# Altium integrated library Analog Devices Data Converters Digital-to-Analog Converters.IntLib: 2231 symbols (part 117 of 181)
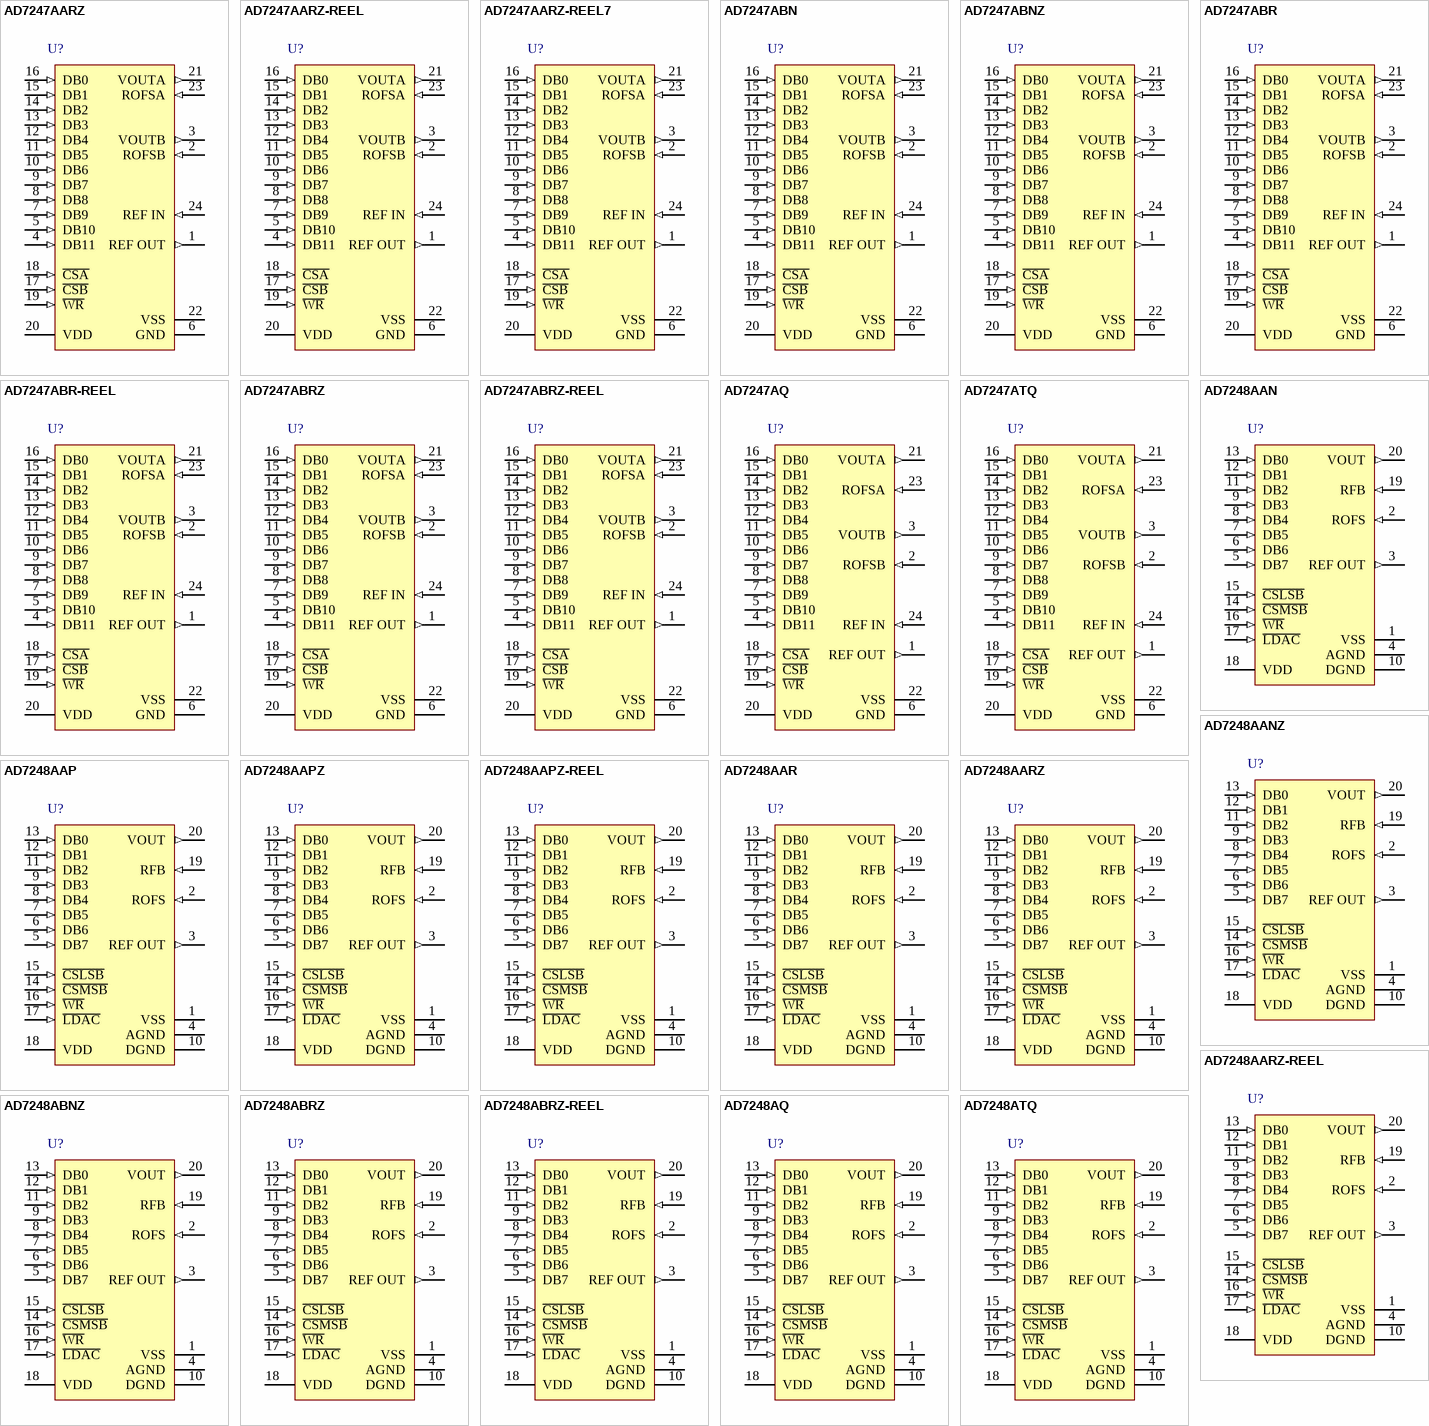
[diagram p230: symbols AD7247AARZ to AD7248ATQ]

## AD7247ABRZ
designator U?
Dual 12-Bit LC2MOS DACPORT, -40 to +85 degC, RW-24, Pb-Free, Tube; Generic Part Number: AD7247A; Manufacturer: Analog Devices; PartNumber: AD7247ABRZ; # DAC Outputs: 2; Max V+: 15V; Resolution (Bits): 12; Settling Time: 30 ns; Single Supply: YES; DatasheetVersion: Rev.A; PackageVersion: 060706-A; PackageReference: RW-24; PackageDescription: 24-Lead Standard Small Outline Package [SOIC_W]; Supplier 1: Digi-Key; Supplier Part Number 1: AD7247ABRZ-ND; Supplier 2: Farnell; Supplier Part Number 2: 1315847; Supplier 3: Newark; Supplier Part Number 3: 59K4626; Supplier 4: Mouser; Supplier Part Number 4: 584-AD7247ABRZ; Packing: Tube; RoHS: Y; Mounting Technology: Surface Mount; Code_JEDEC: MS-013-AD; ComponentLink1Description: Manufacturer URL; ComponentLink1URL: http://www.analog.com/en/index.html; ComponentLink2Description: Datasheet; ComponentLink2URL: http://www.analog.com/static/imported-files/data_sheets/AD7237_7247.pdf; ComponentLink3Description: Package Specification; ComponentLink3URL: http://www.analog.com/static/imported-files/packages/33665150946139RW_24.pdf; ComponentLink4Description: Product URL; ComponentLink4URL: http://www.analog.com/en/digital-to-analog-converters/da-converters/ad7247/products/product.html
footprint RW-24_N (SOIC, 24-Leads, Body 15.4x7.5mm, Pitch 1.27mm, IPC Medium Density)
footprint RW-24_L (SOIC, 24-Leads, Body 15.4x7.5mm, Pitch 1.27mm, IPC High Density)
footprint RW-24_M (SOIC, 24-Leads, Body 15.4x7.5mm, Pitch 1.27mm, IPC Low Density)
pins: 1 REF OUT (out) "Voltage Reference Output. The internal 5 V analog reference is provided at this pin. To operate the part with internal reference, REF OUT should be connected to REF IN.", 2 ROFSB (in) "Output Offset Resistor for DAC B. This input configures the output ranges for DAC B. It is connected to VOUTB for the +5 V range, to GND for the +10 V range and to REF IN for the +/-5 V range.", 3 VOUTB (out) "Analog Output Voltage from DAC B. This is the buffer amplifier output voltage. Three different Output voltage ranges can be chosen: 0 to +5 V, 0 to +10 V and +/-5 V. The amplifier is capable of developing +10 V across a 2 (See Datasheet)", 4 DB11 (in) "Data Bit 11 (MSB).", 5 DB10 (in) "Data Bit 10.", 6 GND (power) "Ground. Ground reference for all on-chip circuitry.", 7 DB9 (in) "Data Bit 9.", 8 DB8 (in) "Data Bit 8.", 9 DB7 (in) "Data Bit 7.", 10 DB6 (in) "Data Bit 6.", 11 DB5 (in) "Data Bit 5.", 12 DB4 (in) "Data Bit 4.", 13 DB3 (in) "Data Bit 3.", 14 DB2 (in) "Data Bit 2.", 15 DB1 (in) "Data Bit 1.", 16 DB0 (in) "Data Bit 0 (LSB).", 17 ~{CSB} (in) "Chip Select Input for DAC B. Active low logic input. DAC B is selected when this input is active.", 18 ~{CSA} (in) "Chip Select Input for DAC A. Active low logic input. DAC A is selected when this input is active.", 19 ~{WR} (in) "Write Input. W\R\ is an active low logic input which is used in conjunction with C\S\A\ and C\S\B\ to write data to the DAC latches.", 20 VDD (power) "Positive Suppiy, +15V.", 21 VOUTA (out) "Analog Output Voltage from DAC A. This is the buffer amplifier output voltage. Three different Output voltage ranges can be chosen: 0 to +5 V , 0 to +10 V and +/-5 V. The amplifier is capable of developing +10 V across a 2 (See Datasheet)", 22 VSS (power) "Negative Supply,-15V.", 23 ROFSA (in) "Output Offset Resistor for DAC A. This input configures the output ranges for DAC A. It is connected to VOUTB for the +5 V range, to GND for the +10 V range and to REF IN for the +/-5 V range.", 24 REF IN (in) "Voltage Reference Input. The common reference voltage for both DACs is applied to this pin. It is internally buffered before being appiled to both DACs. The nominal reference voltage for correct operation of the AD7247 is 5 (See Datasheet)"

## AD7247ABRZ-REEL
designator U?
Dual 12-Bit LC2MOS DACPORT, -40 to +85 degC, RW-24, Pb-Free, Reel; Generic Part Number: AD7247A; Manufacturer: Analog Devices; PartNumber: AD7247ABRZ-REEL; # DAC Outputs: 2; Max V+: 15V; Resolution (Bits): 12; Settling Time: 30 ns; Single Supply: YES; DatasheetVersion: Rev.A; PackageVersion: 060706-A; PackageReference: RW-24; PackageDescription: 24-Lead Standard Small Outline Package [SOIC_W]; Supplier 1: Digi-Key; Supplier Part Number 1: AD7247ABRZ-REEL-ND; Supplier 2: Mouser; Supplier Part Number 2: 584-AD7247ABRZ-R; Packing: Reel; RoHS: Y; Mounting Technology: Surface Mount; Code_JEDEC: MS-013-AD; ComponentLink1Description: Manufacturer URL; ComponentLink1URL: http://www.analog.com/en/index.html; ComponentLink2Description: Datasheet; ComponentLink2URL: http://www.analog.com/static/imported-files/data_sheets/AD7237_7247.pdf; ComponentLink3Description: Package Specification; ComponentLink3URL: http://www.analog.com/static/imported-files/packages/33665150946139RW_24.pdf; ComponentLink4Description: Product URL; ComponentLink4URL: http://www.analog.com/en/digital-to-analog-converters/da-converters/ad7247/products/product.html
footprint RW-24_N (SOIC, 24-Leads, Body 15.4x7.5mm, Pitch 1.27mm, IPC Medium Density)
footprint RW-24_L (SOIC, 24-Leads, Body 15.4x7.5mm, Pitch 1.27mm, IPC High Density)
footprint RW-24_M (SOIC, 24-Leads, Body 15.4x7.5mm, Pitch 1.27mm, IPC Low Density)
pins: 1 REF OUT (out) "Voltage Reference Output. The internal 5 V analog reference is provided at this pin. To operate the part with internal reference, REF OUT should be connected to REF IN.", 2 ROFSB (in) "Output Offset Resistor for DAC B. This input configures the output ranges for DAC B. It is connected to VOUTB for the +5 V range, to GND for the +10 V range and to REF IN for the +/-5 V range.", 3 VOUTB (out) "Analog Output Voltage from DAC B. This is the buffer amplifier output voltage. Three different Output voltage ranges can be chosen: 0 to +5 V, 0 to +10 V and +/-5 V. The amplifier is capable of developing +10 V across a 2 (See Datasheet)", 4 DB11 (in) "Data Bit 11 (MSB).", 5 DB10 (in) "Data Bit 10.", 6 GND (power) "Ground. Ground reference for all on-chip circuitry.", 7 DB9 (in) "Data Bit 9.", 8 DB8 (in) "Data Bit 8.", 9 DB7 (in) "Data Bit 7.", 10 DB6 (in) "Data Bit 6.", 11 DB5 (in) "Data Bit 5.", 12 DB4 (in) "Data Bit 4.", 13 DB3 (in) "Data Bit 3.", 14 DB2 (in) "Data Bit 2.", 15 DB1 (in) "Data Bit 1.", 16 DB0 (in) "Data Bit 0 (LSB).", 17 ~{CSB} (in) "Chip Select Input for DAC B. Active low logic input. DAC B is selected when this input is active.", 18 ~{CSA} (in) "Chip Select Input for DAC A. Active low logic input. DAC A is selected when this input is active.", 19 ~{WR} (in) "Write Input. W\R\ is an active low logic input which is used in conjunction with C\S\A\ and C\S\B\ to write data to the DAC latches.", 20 VDD (power) "Positive Suppiy, +15V.", 21 VOUTA (out) "Analog Output Voltage from DAC A. This is the buffer amplifier output voltage. Three different Output voltage ranges can be chosen: 0 to +5 V , 0 to +10 V and +/-5 V. The amplifier is capable of developing +10 V across a 2 (See Datasheet)", 22 VSS (power) "Negative Supply,-15V.", 23 ROFSA (in) "Output Offset Resistor for DAC A. This input configures the output ranges for DAC A. It is connected to VOUTB for the +5 V range, to GND for the +10 V range and to REF IN for the +/-5 V range.", 24 REF IN (in) "Voltage Reference Input. The common reference voltage for both DACs is applied to this pin. It is internally buffered before being appiled to both DACs. The nominal reference voltage for correct operation of the AD7247 is 5 (See Datasheet)"

## AD7247AQ
designator U?
Dual 12-Bit LC2MOS DACPORT, -40 to +85 degC, Q-24-1, Tube; Generic Part Number: AD7247A; Manufacturer: Analog Devices; PartNumber: AD7247AQ; # DAC Outputs: 2; Max V+: 15V; Resolution (Bits): 12; Settling Time: 30 ns; Single Supply: YES; DatasheetVersion: Rev.A; PackageVersion: 100808-A; PackageReference: Q-24-1; PackageDescription: 24-Lead Ceramic Dual In-Line Package [CERDIP]; Supplier 1: Digi-Key; Supplier Part Number 1: AD7247AQ-ND; Supplier 2: Mouser; Supplier Part Number 2: 584-AD7247AQ; Packing: Tube; RoHS: N; Mounting Technology: Through Hole; ComponentLink1Description: Manufacturer URL; ComponentLink1URL: http://www.analog.com/en/index.html; ComponentLink2Description: Datasheet; ComponentLink2URL: http://www.analog.com/static/imported-files/data_sheets/AD7237_7247.pdf; ComponentLink3Description: Package Specification; ComponentLink3URL: http://www.analog.com/static/imported-files/packages/PKG_PDF/CERDIP(Q)/Q_24_1.pdf; ComponentLink4Description: Product URL; ComponentLink4URL: http://www.analog.com/en/digital-to-analog-converters/da-converters/ad7247/products/product.html
footprint Q-24-1 (DIP, 24-Leads, Row Spacing 7.62mm, Pitch 2.54mm, Body 31.9x6.7mm)
pins: 1 REF OUT (out) "Voltage Reference Output. The internal 5 V analog reference is provided at this pin. To operate the part with internal reference, REF OUT should be connected to REF IN.", 2 ROFSB (in) "Output Offset Resistor for DAC B. This input configures the output ranges for DAC B. It is connected to VOUTB for the +5 V range, to GND for the +10 V range and to REF IN for the +/-5 V range.", 3 VOUTB (out) "Analog Output Voltage from DAC B. This is the buffer amplifier output voltage. Three different Output voltage ranges can be chosen: 0 to +5 V r, 0 to +10 V and +/-5 V. The amplifier is capable of developing +10 V across a 2 (See Datasheet)", 4 DB11 (in) "Data Bit 11 (MSB).", 5 DB10 (in) "Data Bit 10.", 6 GND (power) "Ground. Ground reference for all on-chip circuitry.", 7 DB9 (in) "Data Bit 9.", 8 DB8 (in) "Data Bit 8.", 9 DB7 (in) "Data Bit 7.", 10 DB6 (in) "Data Bit 6.", 11 DB5 (in) "Data Bit 5.", 12 DB4 (in) "Data Bit 4.", 13 DB3 (in) "Data Bit 3.", 14 DB2 (in) "Data Bit 2.", 15 DB1 (in) "Data Bit 1.", 16 DB0 (in) "Data Bit 0 (LSB).", 17 ~{CSB} (in) "Chip Select Input for DAC B. Active low logic input. DAC B is selected when this input is active.", 18 ~{CSA} (in) "Chip Select Input for DAC A. Active low logic input. DAC A is selected when this input is active.", 19 ~{WR} (in) "Write Input. W\R\ is an active low logic input which is used in conjunction with C\S\A\ and C\S\B\ to write data to the DAC latches.", 20 VDD (power) "Positive Supply, +15V.", 21 VOUTA (out) "Analog Output Voltage from DAC A. This is the buffer amplifier output voltage. Three different Output voltage ranges can be chosen: 0 to +5 V , 0 to +10 V and +/-5 V. The amplifier is capable of developing +10 V across a 2 (See Datasheet)", 22 VSS (power) "Negative Supply,-15V.", 23 ROFSA (in) "Output Offset Resistor for DAC A. This input configures the output ranges for DAC A. It is connected to VOUTB for the +5 V range, to GND for the +10 V range and to REF IN for the +/-5 V range.", 24 REF IN (in) "Voltage Reference Input. The common reference voltage for both DACs is applied to this pin. It is internally buffered before being appiled to both DACs. The nominal reference voltage for correct operation of the AD7247 is 5 (See Datasheet)"

## AD7247ATQ
designator U?
Dual 12-Bit LC2MOS DACPORT, -55 to+125 degC, Q-24-1, Tube; Generic Part Number: AD7247A; Manufacturer: Analog Devices; PartNumber: AD7247ATQ; # DAC Outputs: 2; Max V+: 15V; Op Pwr Diss: 165mW; Resolution (Bits): 12; Single Supply: Yes; DatasheetVersion: Rev.A; PackageVersion: 100808-A; PackageReference: Q-24-1; PackageDescription: 24-Lead Ceramic Dual In-Line Package [CERDIP]; Supplier 1: Digi-Key; Supplier Part Number 1: AD7247ATQ-ND; Supplier 2: Mouser; Supplier Part Number 2: 584-AD7247ATQ; Packing: Tube; RoHS: N; Mounting Technology: Through Hole; ComponentLink1Description: Manufacturer URL; ComponentLink1URL: http://www.analog.com/en/index.html; ComponentLink2Description: Datasheet; ComponentLink2URL: http://www.analog.com/static/imported-files/data_sheets/AD7237_7247.pdf; ComponentLink3Description: Package Specification; ComponentLink3URL: http://www.analog.com/static/imported-files/packages/PKG_PDF/CERDIP(Q)/Q_24_1.pdf; ComponentLink4Description: Product URL; ComponentLink4URL: http://www.analog.com/en/digital-to-analog-converters/da-converters/ad7247/products/product.html
footprint Q-24-1 (DIP, 24-Leads, Row Spacing 7.62mm, Pitch 2.54mm, Body 31.9x6.7mm)
pins: 1 REF OUT (out) "Voltage Reference Output. The internal 5 V analog reference is provided at this pin. To operate the part with internal reference, REF OUT should be connected to REF IN.", 2 ROFSB (in) "Output Offset Resistor for DAC B. This input configures the output ranges for DAC B. It is connected to VOUTB for the +5 V range, to GND for the +10 V range and to REF IN for the +/-5 V range.", 3 VOUTB (out) "Analog Output Voltage from DAC B. This is the buffer amplifier output voltage. Three different Output voltage ranges can be chosen: 0 to +5 V r, 0 to +10 V and +/-5 V. The amplifier is capable of developing +10 V across a 2 (See Datasheet)", 4 DB11 (in) "Data Bit 11 (MSB).", 5 DB10 (in) "Data Bit 10.", 6 GND (power) "Ground. Ground reference for all on-chip circuitry.", 7 DB9 (in) "Data Bit 9.", 8 DB8 (in) "Data Bit 8.", 9 DB7 (in) "Data Bit 7.", 10 DB6 (in) "Data Bit 6.", 11 DB5 (in) "Data Bit 5.", 12 DB4 (in) "Data Bit 4.", 13 DB3 (in) "Data Bit 3.", 14 DB2 (in) "Data Bit 2.", 15 DB1 (in) "Data Bit 1.", 16 DB0 (in) "Data Bit 0 (LSB).", 17 ~{CSB} (in) "Chip Select Input for DAC B. Active low logic input. DAC B is selected when this input is active.", 18 ~{CSA} (in) "Chip Select Input for DAC A. Active low logic input. DAC A is selected when this input is active.", 19 ~{WR} (in) "Write Input. W\R\ is an active low logic input which is used in conjunction with C\S\A\ and C\S\B\ to write data to the DAC latches.", 20 VDD (power) "Positive Supply, +15V.", 21 VOUTA (out) "Analog Output Voltage from DAC A. This is the buffer amplifier output voltage. Three different Output voltage ranges can be chosen: 0 to +5 V , 0 to +10 V and +/-5 V. The amplifier is capable of developing +10 V across a 2 (See Datasheet)", 22 VSS (power) "Negative Supply,-15V.", 23 ROFSA (in) "Output Offset Resistor for DAC A. This input configures the output ranges for DAC A. It is connected to VOUTB for the +5 V range, to GND for the +10 V range and to REF IN for the +/-5 V range.", 24 REF IN (in) "Voltage Reference Input. The common reference voltage for both DACs is applied to this pin. It is internally buffered before being appiled to both DACs. The nominal reference voltage for correct operation of the AD7247 is 5 (See Datasheet)"

## AD7248AAN
designator U?
Single 12-Bit LC2MOS DACPORT, -40 to +85 degC, N-20, Tube; Generic Part Number: AD7248A; Manufacturer: Analog Devices; PartNumber: AD7248AAN; # DAC Outputs: 1; Max V+: +16.5V; Resolution (Bits): 12; Settling Time: 7µs; Single Supply: Yes; DatasheetVersion: Rev.B; PackageVersion: 070706-A; PackageReference: N-20; PackageDescription: 20-Lead Plastic Dual In-Line Package [PDIP] Narrow Body; Supplier 1: Digi-Key; Supplier Part Number 1: AD7248AAN-ND; Supplier 2: Mouser; Supplier Part Number 2: 584-AD7248AAN; Packing: Tube; RoHS: N; Mounting Technology: Through Hole; Code_JEDEC: MS-001; ComponentLink1Description: Manufacturer URL; ComponentLink1URL: http://www.analog.com/en/index.html; ComponentLink2Description: Datasheet; ComponentLink2URL: http://www.analog.com/static/imported-files/data_sheets/AD7245A_7248A.pdf; ComponentLink3Description: Package Specification; ComponentLink3URL: http://www.analog.com/static/imported-files/packages/50601349676519N_20.pdf; ComponentLink4Description: Product URL; ComponentLink4URL: http://www.analog.com/en/digital-to-analog-converters/da-converters/ad7248a/products/product.html
footprint N-20 (DIP, 20-Leads, Row Spacing 7.62mm, Pitch 2.54mm, Body 25.9x6.6mm)
pins: 1 VSS (power) "Negative Supply Voltage (0 V for single supply operation).", 2 ROFS (in) "Bipolar Offset Resistor. This provides access to the on-chip application resistors and allows different output voltage ranges.", 3 REF OUT (out) "Reference Output. The on-chip reference is provided at this pin and is used when configuring the part for bipolar outputs.", 4 AGND (power) "Analog Ground.", 5 DB7 (in) "Data Bit 7.", 6 DB6 (in) "Data Bit 6.", 7 DB5 (in) "Data Bit 5.", 8 DB4 (in) "Data Bit 4.", 9 DB3 (in) "Data Bit 3.", 10 DGND (power) "Digital Ground.", 11 DB2 (in) "Data Bit 2/Data Bit 10.", 12 DB1 (in) "Data Bit 1/Data Bit 9.", 13 DB0 (in) "Data Bit 0 (LSB)/Data Bit 8.", 14 ~{CSMSB} (in) "Chip Select Input for MS Nibble. (Active LOW). This selects the upper 4 bits of the input latch. Input data is right justified.", 15 ~{CSLSB} (in) "Chip Select Input for LS byte. (Active LOW). This selects the lower 8 bits of the input latch.", 16 ~{WR} (in) "Write Input. This is used in conjunction with C\S\M\S\B\ and C\S\L\S\B\ to load data into the input latch of the AD7248A.", 17 ~{LDAC} (in) "Load DAC Input (Active LOW). This is an asynchronous input which when active transfers data from the input latch to the DAC latch.", 18 VDD (power) "Positive Supply Voltage.", 19 RFB (in) "Feedback Resistor. This allows access to the amplifier’s feedback loop.", 20 VOUT (out) "Output Voltage. Three different output voltage ranges can be chosen: 0 V to 5 V, 0 V to 10 V or -5 V to +5 V."

## AD7248AANZ
designator U?
Single 12-Bit LC2MOS DACPORT, -40 to +85 degC, N-20, Pb-Free, Tube; Generic Part Number: AD7248A; Manufacturer: Analog Devices; PartNumber: AD7248AANZ; # DAC Outputs: 1; Max V+: +16.5V; Resolution (Bits): 12; Settling Time: 7µs; Single Supply: Yes; DatasheetVersion: Rev.B; PackageVersion: 070706-A; PackageReference: N-20; PackageDescription: 20-Lead Plastic Dual In-Line Package [PDIP] Narrow Body; Supplier 1: Digi-Key; Supplier Part Number 1: AD7248AANZ-ND; Supplier 2: Newark; Supplier Part Number 2: 59K4632; Supplier 3: Mouser; Supplier Part Number 3: 584-AD7248AANZ; Packing: Tube; RoHS: Y; Mounting Technology: Through Hole; Code_JEDEC: MS-001; ComponentLink1Description: Manufacturer URL; ComponentLink1URL: http://www.analog.com/en/index.html; ComponentLink2Description: Datasheet; ComponentLink2URL: http://www.analog.com/static/imported-files/data_sheets/AD7245A_7248A.pdf; ComponentLink3Description: Package Specification; ComponentLink3URL: http://www.analog.com/static/imported-files/packages/50601349676519N_20.pdf; ComponentLink4Description: Product URL; ComponentLink4URL: http://www.analog.com/en/digital-to-analog-converters/da-converters/ad7248a/products/product.html
footprint N-20 (DIP, 20-Leads, Row Spacing 7.62mm, Pitch 2.54mm, Body 25.9x6.6mm)
pins: 1 VSS (power) "Negative Supply Voltage (0 V for single supply operation).", 2 ROFS (in) "Bipolar Offset Resistor. This provides access to the on-chip application resistors and allows different output voltage ranges.", 3 REF OUT (out) "Reference Output. The on-chip reference is provided at this pin and is used when configuring the part for bipolar outputs.", 4 AGND (power) "Analog Ground.", 5 DB7 (in) "Data Bit 7.", 6 DB6 (in) "Data Bit 6.", 7 DB5 (in) "Data Bit 5.", 8 DB4 (in) "Data Bit 4.", 9 DB3 (in) "Data Bit 3.", 10 DGND (power) "Digital Ground.", 11 DB2 (in) "Data Bit 2/Data Bit 10.", 12 DB1 (in) "Data Bit 1/Data Bit 9.", 13 DB0 (in) "Data Bit 0 (LSB)/Data Bit 8.", 14 ~{CSMSB} (in) "Chip Select Input for MS Nibble. (Active LOW). This selects the upper 4 bits of the input latch. Input data is right justified.", 15 ~{CSLSB} (in) "Chip Select Input for LS byte. (Active LOW). This selects the lower 8 bits of the input latch.", 16 ~{WR} (in) "Write Input. This is used in conjunction with C\S\M\S\B\ and C\S\L\S\B\ to load data into the input latch of the AD7248A.", 17 ~{LDAC} (in) "Load DAC Input (Active LOW). This is an asynchronous input which when active transfers data from the input latch to the DAC latch.", 18 VDD (power) "Positive Supply Voltage.", 19 RFB (in) "Feedback Resistor. This allows access to the amplifier’s feedback loop.", 20 VOUT (out) "Output Voltage. Three different output voltage ranges can be chosen: 0 V to 5 V, 0 V to 10 V or -5 V to +5 V."

## AD7248AAP
designator U?
Single 12-Bit LC2MOS DACPORT, -40 to +85 degC, P-20A, Tube; Generic Part Number: AD7248A; Manufacturer: Analog Devices; PartNumber: AD7248AAP; # DAC Outputs: 1; Max V+: +16.5V; Resolution (Bits): 12; Settling Time: 7µs; Single Supply: Yes; DatasheetVersion: Rev.B; PackageVersion: Nov-2002; PackageReference: P-20A; PackageDescription: 20-Lead Plastic Leaded Chip Carrier [PLCC]; Supplier 1: Digi-Key; Supplier Part Number 1: AD7248AAP-ND; Supplier 2: Mouser; Supplier Part Number 2: 584-AD7248AAP; Packing: Tube; RoHS: N; Mounting Technology: Surface Mount; Code_JEDEC: MO-047-AA; ComponentLink1Description: Manufacturer URL; ComponentLink1URL: http://www.analog.com/en/index.html; ComponentLink2Description: Datasheet; ComponentLink2URL: http://www.analog.com/static/imported-files/data_sheets/AD7245A_7248A.pdf; ComponentLink3Description: Package Specification; ComponentLink3URL: http://www.analog.com/static/imported-files/packages/3121431516544404277643669223804694P20A.pdf; ComponentLink4Description: Product URL; ComponentLink4URL: http://www.analog.com/en/digital-to-analog-converters/da-converters/ad7248a/products/product.html
footprint P-20A_N (Leaded Chip Carrier, 20-Leads, Body 9x9mm, Pitch 1.27mm, IPC Medium Density)
footprint P-20A_L (Leaded Chip Carrier, 20-Leads, Body 9x9mm, Pitch 1.27mm, IPC High Density)
footprint P-20A_M (Leaded Chip Carrier, 20-Leads, Body 9x9mm, Pitch 1.27mm, IPC Low Density)
pins: 1 VSS (power) "Negative Supply Voltage (0 V for single supply operation).", 2 ROFS (in) "Bipolar Offset Resistor. This provides access to the on-chip application resistors and allows different output voltage ranges.", 3 REF OUT (out) "Reference Output. The on-chip reference is provided at this pin and is used when configuring the part for bipolar outputs.", 4 AGND (power) "Analog Ground.", 5 DB7 (in) "Data Bit 7.", 6 DB6 (in) "Data Bit 6.", 7 DB5 (in) "Data Bit 5.", 8 DB4 (in) "Data Bit 4.", 9 DB3 (in) "Data Bit 3.", 10 DGND (power) "Digital Ground.", 11 DB2 (in) "Data Bit 2/Data Bit 10.", 12 DB1 (in) "Data Bit 1/Data Bit 9.", 13 DB0 (in) "Data Bit 0 (LSB)/Data Bit 8.", 14 ~{CSMSB} (in) "Chip Select Input for MS Nibble. (Active LOW). This selects the upper 4 bits of the input latch. Input data is right justified.", 15 ~{CSLSB} (in) "Chip Select Input for LS byte. (Active LOW). This selects the lower 8 bits of the input latch.", 16 ~{WR} (in) "Write Input. This is used in conjunction with C\S\M\S\B\ and C\S\L\S\B\ to load data into the input latch of the AD7248A.", 17 ~{LDAC} (in) "Load DAC Input (Active LOW). This is an asynchronous input which when active transfers data from the input latch to the DAC latch.", 18 VDD (power) "Positive Supply Voltage.", 19 RFB (in) "Feedback Resistor. This allows access to the amplifier’s feedback loop.", 20 VOUT (out) "Output Voltage. Three different output voltage ranges can be chosen: 0 V to 5 V, 0 V to 10 V or -5 V to +5 V."

## AD7248AAPZ
designator U?
Single 12-Bit LC2MOS DACPORT, -40 to +85 degC, P-20A, Pb-Free, Tube; Generic Part Number: AD7248A; Manufacturer: Analog Devices; PartNumber: AD7248AAPZ; # DAC Outputs: 1; Max V+: +16.5V; Resolution (Bits): 12; Settling Time: 7µs; Single Supply: Yes; DatasheetVersion: Rev.B; PackageVersion: Nov-2002; PackageReference: P-20A; PackageDescription: 20-Lead Plastic Leaded Chip Carrier [PLCC]; Supplier 1: Digi-Key; Supplier Part Number 1: AD7248AAPZ-ND; Supplier 2: Newark; Supplier Part Number 2: 59K4633; Supplier 3: Mouser; Supplier Part Number 3: 584-AD7248AAPZ; Packing: Tube; RoHS: Y; Mounting Technology: Surface Mount; Code_JEDEC: MO-047-AA; ComponentLink1Description: Manufacturer URL; ComponentLink1URL: http://www.analog.com/en/index.html; ComponentLink2Description: Datasheet; ComponentLink2URL: http://www.analog.com/static/imported-files/data_sheets/AD7245A_7248A.pdf; ComponentLink3Description: Package Specification; ComponentLink3URL: http://www.analog.com/static/imported-files/packages/3121431516544404277643669223804694P20A.pdf; ComponentLink4Description: Product URL; ComponentLink4URL: http://www.analog.com/en/digital-to-analog-converters/da-converters/ad7248a/products/product.html
footprint P-20A_N (Leaded Chip Carrier, 20-Leads, Body 9x9mm, Pitch 1.27mm, IPC Medium Density)
footprint P-20A_L (Leaded Chip Carrier, 20-Leads, Body 9x9mm, Pitch 1.27mm, IPC High Density)
footprint P-20A_M (Leaded Chip Carrier, 20-Leads, Body 9x9mm, Pitch 1.27mm, IPC Low Density)
pins: 1 VSS (power) "Negative Supply Voltage (0 V for single supply operation).", 2 ROFS (in) "Bipolar Offset Resistor. This provides access to the on-chip application resistors and allows different output voltage ranges.", 3 REF OUT (out) "Reference Output. The on-chip reference is provided at this pin and is used when configuring the part for bipolar outputs.", 4 AGND (power) "Analog Ground.", 5 DB7 (in) "Data Bit 7.", 6 DB6 (in) "Data Bit 6.", 7 DB5 (in) "Data Bit 5.", 8 DB4 (in) "Data Bit 4.", 9 DB3 (in) "Data Bit 3.", 10 DGND (power) "Digital Ground.", 11 DB2 (in) "Data Bit 2/Data Bit 10.", 12 DB1 (in) "Data Bit 1/Data Bit 9.", 13 DB0 (in) "Data Bit 0 (LSB)/Data Bit 8.", 14 ~{CSMSB} (in) "Chip Select Input for MS Nibble. (Active LOW). This selects the upper 4 bits of the input latch. Input data is right justified.", 15 ~{CSLSB} (in) "Chip Select Input for LS byte. (Active LOW). This selects the lower 8 bits of the input latch.", 16 ~{WR} (in) "Write Input. This is used in conjunction with C\S\M\S\B\ and C\S\L\S\B\ to load data into the input latch of the AD7248A.", 17 ~{LDAC} (in) "Load DAC Input (Active LOW). This is an asynchronous input which when active transfers data from the input latch to the DAC latch.", 18 VDD (power) "Positive Supply Voltage.", 19 RFB (in) "Feedback Resistor. This allows access to the amplifier’s feedback loop.", 20 VOUT (out) "Output Voltage. Three different output voltage ranges can be chosen: 0 V to 5 V, 0 V to 10 V or -5 V to +5 V."

## AD7248AAPZ-REEL
designator U?
Single 12-Bit LC2MOS DACPORT, -40 to +85 degC, P-20A, Pb-Free, Reel; Generic Part Number: AD7248A; Manufacturer: Analog Devices; PartNumber: AD7248AAPZ-REEL; # DAC Outputs: 1; Max V+: +16.5V; Resolution (Bits): 12; Settling Time: 7µs; Single Supply: Yes; DatasheetVersion: Rev.B; PackageVersion: Nov-2002; PackageReference: P-20A; PackageDescription: 20-Lead Plastic Leaded Chip Carrier [PLCC]; Supplier 1: Digi-Key; Supplier Part Number 1: AD7248AAPZ-REEL-ND; Supplier 2: Mouser; Supplier Part Number 2: 584-AD7248AAPZ-R; Packing: Reel; RoHS: Y; Mounting Technology: Surface Mount; Code_JEDEC: MO-047-AA; ComponentLink1Description: Manufacturer URL; ComponentLink1URL: http://www.analog.com/en/index.html; ComponentLink2Description: Datasheet; ComponentLink2URL: http://www.analog.com/static/imported-files/data_sheets/AD7245A_7248A.pdf; ComponentLink3Description: Package Specification; ComponentLink3URL: http://www.analog.com/static/imported-files/packages/3121431516544404277643669223804694P20A.pdf; ComponentLink4Description: Product URL; ComponentLink4URL: http://www.analog.com/en/digital-to-analog-converters/da-converters/ad7248a/products/product.html
footprint P-20A_N (Leaded Chip Carrier, 20-Leads, Body 9x9mm, Pitch 1.27mm, IPC Medium Density)
footprint P-20A_L (Leaded Chip Carrier, 20-Leads, Body 9x9mm, Pitch 1.27mm, IPC High Density)
footprint P-20A_M (Leaded Chip Carrier, 20-Leads, Body 9x9mm, Pitch 1.27mm, IPC Low Density)
pins: 1 VSS (power) "Negative Supply Voltage (0 V for single supply operation).", 2 ROFS (in) "Bipolar Offset Resistor. This provides access to the on-chip application resistors and allows different output voltage ranges.", 3 REF OUT (out) "Reference Output. The on-chip reference is provided at this pin and is used when configuring the part for bipolar outputs.", 4 AGND (power) "Analog Ground.", 5 DB7 (in) "Data Bit 7.", 6 DB6 (in) "Data Bit 6.", 7 DB5 (in) "Data Bit 5.", 8 DB4 (in) "Data Bit 4.", 9 DB3 (in) "Data Bit 3.", 10 DGND (power) "Digital Ground.", 11 DB2 (in) "Data Bit 2/Data Bit 10.", 12 DB1 (in) "Data Bit 1/Data Bit 9.", 13 DB0 (in) "Data Bit 0 (LSB)/Data Bit 8.", 14 ~{CSMSB} (in) "Chip Select Input for MS Nibble. (Active LOW). This selects the upper 4 bits of the input latch. Input data is right justified.", 15 ~{CSLSB} (in) "Chip Select Input for LS byte. (Active LOW). This selects the lower 8 bits of the input latch.", 16 ~{WR} (in) "Write Input. This is used in conjunction with C\S\M\S\B\ and C\S\L\S\B\ to load data into the input latch of the AD7248A.", 17 ~{LDAC} (in) "Load DAC Input (Active LOW). This is an asynchronous input which when active transfers data from the input latch to the DAC latch.", 18 VDD (power) "Positive Supply Voltage.", 19 RFB (in) "Feedback Resistor. This allows access to the amplifier’s feedback loop.", 20 VOUT (out) "Output Voltage. Three different output voltage ranges can be chosen: 0 V to 5 V, 0 V to 10 V or -5 V to +5 V."

## AD7248AAR
designator U?
Single 12-Bit LC2MOS DACPORT, -40 to +85 degC, RW-20, Tube; Generic Part Number: AD7248A; Manufacturer: Analog Devices; PartNumber: AD7248AAR; # DAC Outputs: 1; Max V+: +16.5V; Resolution (Bits): 12; Settling Time: 7µs; Single Supply: Yes; DatasheetVersion: Rev.B; PackageVersion: 060706-A; PackageReference: RW-20; PackageDescription: 20-Lead Standard Small Outline Package [SOIC_W] Wide Body; Supplier 1: Digi-Key; Supplier Part Number 1: AD7248AAR-ND; Supplier 2: Mouser; Supplier Part Number 2: 584-AD7248AAR; Packing: Tube; RoHS: N; Mounting Technology: Surface Mount; Code_JEDEC: MS-013-AC; ComponentLink1Description: Manufacturer URL; ComponentLink1URL: http://www.analog.com/en/index.html; ComponentLink2Description: Datasheet; ComponentLink2URL: http://www.analog.com/static/imported-files/data_sheets/AD7245A_7248A.pdf; ComponentLink3Description: Package Specification; ComponentLink3URL: http://www.analog.com/static/imported-files/packages/233848RW_20.pdf; ComponentLink4Description: Product URL; ComponentLink4URL: http://www.analog.com/en/digital-to-analog-converters/da-converters/ad7248a/products/product.html
footprint RW-20_N (SOIC, 20-Leads, Body 12.8x7.5mm, Pitch 1.27mm, IPC Medium Density)
footprint RW-20_L (SOIC, 20-Leads, Body 12.8x7.5mm, Pitch 1.27mm, IPC High Density)
footprint RW-20_M (SOIC, 20-Leads, Body 12.8x7.5mm, Pitch 1.27mm, IPC Low Density)
pins: 1 VSS (power) "Negative Supply Voltage (0 V for single supply operation).", 2 ROFS (in) "Bipolar Offset Resistor. This provides access to the on-chip application resistors and allows different output voltage ranges.", 3 REF OUT (out) "Reference Output. The on-chip reference is provided at this pin and is used when configuring the part for bipolar outputs.", 4 AGND (power) "Analog Ground.", 5 DB7 (in) "Data Bit 7.", 6 DB6 (in) "Data Bit 6.", 7 DB5 (in) "Data Bit 5.", 8 DB4 (in) "Data Bit 4.", 9 DB3 (in) "Data Bit 3.", 10 DGND (power) "Digital Ground.", 11 DB2 (in) "Data Bit 2/Data Bit 10.", 12 DB1 (in) "Data Bit 1/Data Bit 9.", 13 DB0 (in) "Data Bit 0 (LSB)/Data Bit 8.", 14 ~{CSMSB} (in) "Chip Select Input for MS Nibble. (Active LOW). This selects the upper 4 bits of the input latch. Input data is right justified.", 15 ~{CSLSB} (in) "Chip Select Input for LS byte. (Active LOW). This selects the lower 8 bits of the input latch.", 16 ~{WR} (in) "Write Input. This is used in conjunction with C\S\M\S\B\ and C\S\L\S\B\ to load data into the input latch of the AD7248A.", 17 ~{LDAC} (in) "Load DAC Input (Active LOW). This is an asynchronous input which when active transfers data from the input latch to the DAC latch.", 18 VDD (power) "Positive Supply Voltage.", 19 RFB (in) "Feedback Resistor. This allows access to the amplifier’s feedback loop.", 20 VOUT (out) "Output Voltage. Three different output voltage ranges can be chosen: 0 V to 5 V, 0 V to 10 V or -5 V to +5 V."

## AD7248AARZ
designator U?
Single 12-Bit LC2MOS DACPORT, 0 to +70 degC, RW-20, Pb-Free, Tube; Generic Part Number: AD7248A; Manufacturer: Analog Devices; PartNumber: AD7248AARZ; # DAC Outputs: 1; Max V+: +16.5V; Resolution (Bits): 12; Settling Time: 7µs; Single Supply: Yes; DatasheetVersion: Rev.B; PackageVersion: 060706-A; PackageReference: RW-20; PackageDescription: 20-Lead Standard Small Outline Package [SOIC_W] Wide Body; Supplier 1: Digi-Key; Supplier Part Number 1: AD7248AARZ-ND; Supplier 2: Farnell; Supplier Part Number 2: 1438399; Supplier 3: Newark; Supplier Part Number 3: 59K4635; Supplier 4: Mouser; Supplier Part Number 4: 584-AD7248AARZ; Packing: Tube; RoHS: Y; Mounting Technology: Surface Mount; Code_JEDEC: MS-013-AC; ComponentLink1Description: Manufacturer URL; ComponentLink1URL: http://www.analog.com/en/index.html; ComponentLink2Description: Datasheet; ComponentLink2URL: http://www.analog.com/static/imported-files/data_sheets/AD7245A_7248A.pdf; ComponentLink3Description: Package Specification; ComponentLink3URL: http://www.analog.com/static/imported-files/packages/233848RW_20.pdf; ComponentLink4Description: Product URL; ComponentLink4URL: http://www.analog.com/en/digital-to-analog-converters/da-converters/ad7248a/products/product.html
footprint RW-20_N (SOIC, 20-Leads, Body 12.8x7.5mm, Pitch 1.27mm, IPC Medium Density)
footprint RW-20_L (SOIC, 20-Leads, Body 12.8x7.5mm, Pitch 1.27mm, IPC High Density)
footprint RW-20_M (SOIC, 20-Leads, Body 12.8x7.5mm, Pitch 1.27mm, IPC Low Density)
pins: 1 VSS (power) "Negative Supply Voltage (0 V for single supply operation).", 2 ROFS (in) "Bipolar Offset Resistor. This provides access to the on-chip application resistors and allows different output voltage ranges.", 3 REF OUT (out) "Reference Output. The on-chip reference is provided at this pin and is used when configuring the part for bipolar outputs.", 4 AGND (power) "Analog Ground.", 5 DB7 (in) "Data Bit 7.", 6 DB6 (in) "Data Bit 6.", 7 DB5 (in) "Data Bit 5.", 8 DB4 (in) "Data Bit 4.", 9 DB3 (in) "Data Bit 3.", 10 DGND (power) "Digital Ground.", 11 DB2 (in) "Data Bit 2/Data Bit 10.", 12 DB1 (in) "Data Bit 1/Data Bit 9.", 13 DB0 (in) "Data Bit 0 (LSB)/Data Bit 8.", 14 ~{CSMSB} (in) "Chip Select Input for MS Nibble. (Active LOW). This selects the upper 4 bits of the input latch. Input data is right justified.", 15 ~{CSLSB} (in) "Chip Select Input for LS byte. (Active LOW). This selects the lower 8 bits of the input latch.", 16 ~{WR} (in) "Write Input. This is used in conjunction with C\S\M\S\B\ and C\S\L\S\B\ to load data into the input latch of the AD7248A.", 17 ~{LDAC} (in) "Load DAC Input (Active LOW). This is an asynchronous input which when active transfers data from the input latch to the DAC latch.", 18 VDD (power) "Positive Supply Voltage.", 19 RFB (in) "Feedback Resistor. This allows access to the amplifier’s feedback loop.", 20 VOUT (out) "Output Voltage. Three different output voltage ranges can be chosen: 0 V to 5 V, 0 V to 10 V or -5 V to +5 V."

## AD7248AARZ-REEL
designator U?
Single 12-Bit LC2MOS DACPORT, 0 to +70 degC, RW-20, Pb-Free, Reel; Generic Part Number: AD7248A; Manufacturer: Analog Devices; PartNumber: AD7248AARZ-REEL; # DAC Outputs: 1; Max V+: 16.5V; Op Pwr Diss: 210mW; Resolution (Bits): 12; Settling Time: 7µs; Single Supply: Yes; DatasheetVersion: Rev.B; PackageVersion: 060706-A; PackageReference: RW-20; PackageDescription: 20-Lead Standard Small Outline Package [SOIC_W] Wide Body; Supplier 1: Digi-Key; Supplier Part Number 1: AD7248AARZ-REEL-ND; Supplier 2: Mouser; Supplier Part Number 2: 584-AD7248AARZ-R; Packing: Reel; RoHS: Y; Mounting Technology: Surface Mount; Code_JEDEC: MS-013-AC; ComponentLink1Description: Manufacturer URL; ComponentLink1URL: http://www.analog.com/en/index.html; ComponentLink2Description: Datasheet; ComponentLink2URL: http://www.analog.com/static/imported-files/data_sheets/AD7245A_7248A.pdf; ComponentLink3Description: Package Specification; ComponentLink3URL: http://www.analog.com/static/imported-files/packages/233848RW_20.pdf; ComponentLink4Description: Product URL; ComponentLink4URL: http://www.analog.com/en/digital-to-analog-converters/da-converters/ad7248a/products/product.html
footprint RW-20_N (SOIC, 20-Leads, Body 12.8x7.5mm, Pitch 1.27mm, IPC Medium Density)
footprint RW-20_L (SOIC, 20-Leads, Body 12.8x7.5mm, Pitch 1.27mm, IPC High Density)
footprint RW-20_M (SOIC, 20-Leads, Body 12.8x7.5mm, Pitch 1.27mm, IPC Low Density)
pins: 1 VSS (power) "Negative Supply Voltage (0 V for single supply operation).", 2 ROFS (in) "Bipolar Offset Resistor. This provides access to the on-chip application resistors and allows different output voltage ranges.", 3 REF OUT (out) "Reference Output. The on-chip reference is provided at this pin and is used when configuring the part for bipolar outputs.", 4 AGND (power) "Analog Ground.", 5 DB7 (in) "Data Bit 7.", 6 DB6 (in) "Data Bit 6.", 7 DB5 (in) "Data Bit 5.", 8 DB4 (in) "Data Bit 4.", 9 DB3 (in) "Data Bit 3.", 10 DGND (power) "Digital Ground.", 11 DB2 (in) "Data Bit 2/Data Bit 10.", 12 DB1 (in) "Data Bit 1/Data Bit 9.", 13 DB0 (in) "Data Bit 0 (LSB)/Data Bit 8.", 14 ~{CSMSB} (in) "Chip Select Input for MS Nibble. (Active LOW). This selects the upper 4 bits of the input latch. Input data is right justified.", 15 ~{CSLSB} (in) "Chip Select Input for LS byte. (Active LOW). This selects the lower 8 bits of the input latch.", 16 ~{WR} (in) "Write Input. This is used in conjunction with C\S\M\S\B\ and C\S\L\S\B\ to load data into the input latch of the AD7248A.", 17 ~{LDAC} (in) "Load DAC Input (Active LOW). This is an asynchronous input which when active transfers data from the input latch to the DAC latch.", 18 VDD (power) "Positive Supply Voltage.", 19 RFB (in) "Feedback Resistor. This allows access to the amplifier’s feedback loop.", 20 VOUT (out) "Output Voltage. Three different output voltage ranges can be chosen: 0 V to 5 V, 0 V to 10 V or -5 V to +5 V."

## AD7248ABNZ
designator U?
Single 12-Bit LC2MOS DACPORT, -40 to +85 degC, N-20, Pb-Free, Tube; Generic Part Number: AD7248A; Manufacturer: Analog Devices; PartNumber: AD7248ABNZ; # DAC Outputs: 1; Max V+: +16.5V; Resolution (Bits): 12; Settling Time: 7µs; Single Supply: Yes; DatasheetVersion: Rev.B; PackageVersion: 070706-A; PackageReference: N-20; PackageDescription: 20-Lead Plastic Dual In-Line Package [PDIP] Narrow Body; Supplier 1: Digi-Key; Supplier Part Number 1: AD7248ABNZ-ND; Supplier 2: Mouser; Supplier Part Number 2: 584-AD7248ABNZ; Packing: Tube; RoHS: Y; Mounting Technology: Through Hole; Code_JEDEC: MS-001; ComponentLink1Description: Manufacturer URL; ComponentLink1URL: http://www.analog.com/en/index.html; ComponentLink2Description: Datasheet; ComponentLink2URL: http://www.analog.com/static/imported-files/data_sheets/AD7245A_7248A.pdf; ComponentLink3Description: Package Specification; ComponentLink3URL: http://www.analog.com/static/imported-files/packages/50601349676519N_20.pdf; ComponentLink4Description: Product URL; ComponentLink4URL: http://www.analog.com/en/digital-to-analog-converters/da-converters/ad7248a/products/product.html
footprint N-20 (DIP, 20-Leads, Row Spacing 7.62mm, Pitch 2.54mm, Body 25.9x6.6mm)
pins: 1 VSS (power) "Negative Supply Voltage (0 V for single supply operation).", 2 ROFS (in) "Bipolar Offset Resistor. This provides access to the on-chip application resistors and allows different output voltage ranges.", 3 REF OUT (out) "Reference Output. The on-chip reference is provided at this pin and is used when configuring the part for bipolar outputs.", 4 AGND (power) "Analog Ground.", 5 DB7 (in) "Data Bit 7.", 6 DB6 (in) "Data Bit 6.", 7 DB5 (in) "Data Bit 5.", 8 DB4 (in) "Data Bit 4.", 9 DB3 (in) "Data Bit 3.", 10 DGND (power) "Digital Ground.", 11 DB2 (in) "Data Bit 2/Data Bit 10.", 12 DB1 (in) "Data Bit 1/Data Bit 9.", 13 DB0 (in) "Data Bit 0 (LSB)/Data Bit 8.", 14 ~{CSMSB} (in) "Chip Select Input for MS Nibble. (Active LOW). This selects the upper 4 bits of the input latch. Input data is right justified.", 15 ~{CSLSB} (in) "Chip Select Input for LS byte. (Active LOW). This selects the lower 8 bits of the input latch.", 16 ~{WR} (in) "Write Input. This is used in conjunction with C\S\M\S\B\ and C\S\L\S\B\ to load data into the input latch of the AD7248A.", 17 ~{LDAC} (in) "Load DAC Input (Active LOW). This is an asynchronous input which when active transfers data from the input latch to the DAC latch.", 18 VDD (power) "Positive Supply Voltage.", 19 RFB (in) "Feedback Resistor. This allows access to the amplifier’s feedback loop.", 20 VOUT (out) "Output Voltage. Three different output voltage ranges can be chosen: 0 V to 5 V, 0 V to 10 V or -5 V to +5 V."

## AD7248ABRZ
designator U?
Single 12-Bit LC2MOS DACPORT, 0 to +70 degC, RW-20, Pb-Free, Tube; Generic Part Number: AD7248A; Manufacturer: Analog Devices; PartNumber: AD7248ABRZ; # DAC Outputs: 1; Max V+: +16.5V; Resolution (Bits): 12; Settling Time: 7µs; Single Supply: Yes; DatasheetVersion: Rev.B; PackageVersion: 060706-A; PackageReference: RW-20; PackageDescription: 20-Lead Standard Small Outline Package [SOIC_W] Wide Body; Supplier 1: Digi-Key; Supplier Part Number 1: AD7248ABRZ-ND; Supplier 2: Mouser; Supplier Part Number 2: 584-AD7248ABRZ; Packing: Tube; RoHS: Y; Mounting Technology: Surface Mount; Code_JEDEC: MS-013-AC; ComponentLink1Description: Manufacturer URL; ComponentLink1URL: http://www.analog.com/en/index.html; ComponentLink2Description: Datasheet; ComponentLink2URL: http://www.analog.com/static/imported-files/data_sheets/AD7245A_7248A.pdf; ComponentLink3Description: Package Specification; ComponentLink3URL: http://www.analog.com/static/imported-files/packages/233848RW_20.pdf; ComponentLink4Description: Product URL; ComponentLink4URL: http://www.analog.com/en/digital-to-analog-converters/da-converters/ad7248a/products/product.html
footprint RW-20_N (SOIC, 20-Leads, Body 12.8x7.5mm, Pitch 1.27mm, IPC Medium Density)
footprint RW-20_L (SOIC, 20-Leads, Body 12.8x7.5mm, Pitch 1.27mm, IPC High Density)
footprint RW-20_M (SOIC, 20-Leads, Body 12.8x7.5mm, Pitch 1.27mm, IPC Low Density)
pins: 1 VSS (power) "Negative Supply Voltage (0 V for single supply operation).", 2 ROFS (in) "Bipolar Offset Resistor. This provides access to the on-chip application resistors and allows different output voltage ranges.", 3 REF OUT (out) "Reference Output. The on-chip reference is provided at this pin and is used when configuring the part for bipolar outputs.", 4 AGND (power) "Analog Ground.", 5 DB7 (in) "Data Bit 7.", 6 DB6 (in) "Data Bit 6.", 7 DB5 (in) "Data Bit 5.", 8 DB4 (in) "Data Bit 4.", 9 DB3 (in) "Data Bit 3.", 10 DGND (power) "Digital Ground.", 11 DB2 (in) "Data Bit 2/Data Bit 10.", 12 DB1 (in) "Data Bit 1/Data Bit 9.", 13 DB0 (in) "Data Bit 0 (LSB)/Data Bit 8.", 14 ~{CSMSB} (in) "Chip Select Input for MS Nibble. (Active LOW). This selects the upper 4 bits of the input latch. Input data is right justified.", 15 ~{CSLSB} (in) "Chip Select Input for LS byte. (Active LOW). This selects the lower 8 bits of the input latch.", 16 ~{WR} (in) "Write Input. This is used in conjunction with C\S\M\S\B\ and C\S\L\S\B\ to load data into the input latch of the AD7248A.", 17 ~{LDAC} (in) "Load DAC Input (Active LOW). This is an asynchronous input which when active transfers data from the input latch to the DAC latch.", 18 VDD (power) "Positive Supply Voltage.", 19 RFB (in) "Feedback Resistor. This allows access to the amplifier’s feedback loop.", 20 VOUT (out) "Output Voltage. Three different output voltage ranges can be chosen: 0 V to 5 V, 0 V to 10 V or -5 V to +5 V."

## AD7248ABRZ-REEL
designator U?
Single 12-Bit LC2MOS DACPORT, 0 to +70 degC, RW-20, Pb-Free, Reel; Generic Part Number: AD7248A; Manufacturer: Analog Devices; PartNumber: AD7248ABRZ-REEL; # DAC Outputs: 1; Max V+: +16.5V; Resolution (Bits): 12; Settling Time: 7µs; Single Supply: Yes; DatasheetVersion: Rev.B; PackageVersion: 060706-A; PackageReference: RW-20; PackageDescription: 20-Lead Standard Small Outline Package [SOIC_W] Wide Body; Supplier 1: Digi-Key; Supplier Part Number 1: AD7248ABRZ-REEL-ND; Supplier 2: Mouser; Supplier Part Number 2: 584-AD7248ABRZ-R; Packing: Reel; RoHS: Y; Mounting Technology: Surface Mount; Code_JEDEC: MS-013-AC; ComponentLink1Description: Manufacturer URL; ComponentLink1URL: http://www.analog.com/en/index.html; ComponentLink2Description: Datasheet; ComponentLink2URL: http://www.analog.com/static/imported-files/data_sheets/AD7245A_7248A.pdf; ComponentLink3Description: Package Specification; ComponentLink3URL: http://www.analog.com/static/imported-files/packages/233848RW_20.pdf; ComponentLink4Description: Product URL; ComponentLink4URL: http://www.analog.com/en/digital-to-analog-converters/da-converters/ad7248a/products/product.html
footprint RW-20_N (SOIC, 20-Leads, Body 12.8x7.5mm, Pitch 1.27mm, IPC Medium Density)
footprint RW-20_L (SOIC, 20-Leads, Body 12.8x7.5mm, Pitch 1.27mm, IPC High Density)
footprint RW-20_M (SOIC, 20-Leads, Body 12.8x7.5mm, Pitch 1.27mm, IPC Low Density)
pins: 1 VSS (power) "Negative Supply Voltage (0 V for single supply operation).", 2 ROFS (in) "Bipolar Offset Resistor. This provides access to the on-chip application resistors and allows different output voltage ranges.", 3 REF OUT (out) "Reference Output. The on-chip reference is provided at this pin and is used when configuring the part for bipolar outputs.", 4 AGND (power) "Analog Ground.", 5 DB7 (in) "Data Bit 7.", 6 DB6 (in) "Data Bit 6.", 7 DB5 (in) "Data Bit 5.", 8 DB4 (in) "Data Bit 4.", 9 DB3 (in) "Data Bit 3.", 10 DGND (power) "Digital Ground.", 11 DB2 (in) "Data Bit 2/Data Bit 10.", 12 DB1 (in) "Data Bit 1/Data Bit 9.", 13 DB0 (in) "Data Bit 0 (LSB)/Data Bit 8.", 14 ~{CSMSB} (in) "Chip Select Input for MS Nibble. (Active LOW). This selects the upper 4 bits of the input latch. Input data is right justified.", 15 ~{CSLSB} (in) "Chip Select Input for LS byte. (Active LOW). This selects the lower 8 bits of the input latch.", 16 ~{WR} (in) "Write Input. This is used in conjunction with C\S\M\S\B\ and C\S\L\S\B\ to load data into the input latch of the AD7248A.", 17 ~{LDAC} (in) "Load DAC Input (Active LOW). This is an asynchronous input which when active transfers data from the input latch to the DAC latch.", 18 VDD (power) "Positive Supply Voltage.", 19 RFB (in) "Feedback Resistor. This allows access to the amplifier’s feedback loop.", 20 VOUT (out) "Output Voltage. Three different output voltage ranges can be chosen: 0 V to 5 V, 0 V to 10 V or -5 V to +5 V."

## AD7248AQ
designator U?
Single 12-Bit LC2MOS DACPORT, -40 to +85 degC, Q-20, Tube; Generic Part Number: AD7248A; Manufacturer: Analog Devices; PartNumber: AD7248AQ; # DAC Outputs: 1; Max V+: +16.5V; Resolution (Bits): 12; Settling Time: 7µs; Single Supply: Yes; DatasheetVersion: Rev.B; PackageVersion: Dec-2004; PackageReference: Q-20; PackageDescription: 20-Lead Ceramic Dual In-Line Package [CERDIP]; Supplier 1: Digi-Key; Supplier Part Number 1: AD7248AQ-ND; Supplier 2: Mouser; Supplier Part Number 2: 584-AD7248AQ; Packing: Tube; RoHS: N; Mounting Technology: Through Hole; ComponentLink1Description: Manufacturer URL; ComponentLink1URL: http://www.analog.com/en/index.html; ComponentLink2Description: Datasheet; ComponentLink2URL: http://www.analog.com/static/imported-files/data_sheets/AD7245A_7248A.pdf; ComponentLink3Description: Package Specification; ComponentLink3URL: http://www.analog.com/static/imported-files/packages/50516416473314Q_20.pdf; ComponentLink4Description: Product URL; ComponentLink4URL: http://www.analog.com/en/digital-to-analog-converters/da-converters/ad7248a/products/product.html
footprint Q-20 (DIP, 20-Leads, Row Spacing 7.62mm, Pitch 2.54mm, Body 25.9x6.7mm)
pins: 1 VSS (power) "Negative Supply Voltage (0 V for single supply operation).", 2 ROFS (in) "Bipolar Offset Resistor. This provides access to the on-chip application resistors and allows different output voltage ranges.", 3 REF OUT (out) "Reference Output. The on-chip reference is provided at this pin and is used when configuring the part for bipolar outputs.", 4 AGND (power) "Analog Ground.", 5 DB7 (in) "Data Bit 7.", 6 DB6 (in) "Data Bit 6.", 7 DB5 (in) "Data Bit 5.", 8 DB4 (in) "Data Bit 4.", 9 DB3 (in) "Data Bit 3.", 10 DGND (power) "Digital Ground.", 11 DB2 (in) "Data Bit 2/Data Bit 10.", 12 DB1 (in) "Data Bit 1/Data Bit 9.", 13 DB0 (in) "Data Bit 0 (LSB)/Data Bit 8.", 14 ~{CSMSB} (in) "Chip Select Input for MS Nibble. (Active LOW). This selects the upper 4 bits of the input latch. Input data is right justified.", 15 ~{CSLSB} (in) "Chip Select Input for LS byte. (Active LOW). This selects the lower 8 bits of the input latch.", 16 ~{WR} (in) "Write Input. This is used in conjunction with C\S\M\S\B\ and C\S\L\S\B\ to load data into the input latch of the AD7248A.", 17 ~{LDAC} (in) "Load DAC Input (Active LOW). This is an asynchronous input which when active transfers data from the input latch to the DAC latch.", 18 VDD (power) "Positive Supply Voltage.", 19 RFB (in) "Feedback Resistor. This allows access to the amplifier's feedback loop.", 20 VOUT (out) "Output Voltage. Three different output voltage ranges can be chosen: 0 V to 5 V, 0 V to 10 V or -5 V to +5 V."